# Altium schematic symbol library Schlib-ESP-01S-WS-V1.0.SchLib: 7 symbols
Pins are listed as number, name and electrical type; pins without a type are passive.

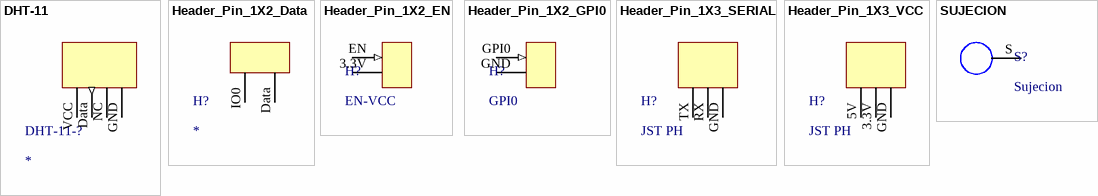
[diagram p0: symbols DHT-11 to SUJECION]

## DHT-11
designator DHT-11-?
footprint DHT-11
pins: Data (out), GND, NC, VCC (power)

## Header_Pin_1X2_Data
designator H?
footprint Header_Pin_1X2_Data
pins: Data, IO0

## Header_Pin_1X2_EN
designator H?, comment EN-VCC
footprint Header_Pin_1X2-EN
pins: 3.3V, EN (in)

## Header_Pin_1X2_GPI0
designator H?, comment GPI0
footprint Header_Pin_1X2-GPI0
pins: GND, GPI0 (in)

## Header_Pin_1X3_SERIAL
designator H?, comment JST PH
footprint HEADER_PIN_1X3_SERIAL
pins: GND, RX, TX

## Header_Pin_1X3_VCC
designator H?, comment JST PH
footprint JST-PH-VCC
pins: 3.3V, 5V, GND

## SUJECION
designator S?, comment Sujecion
footprint SUJECION
pins: S